# Altium schematic symbol library SRV05-4PTCT.SchLib: 2 symbols
Pins are listed as number, name and electrical type; pins without a type are passive.

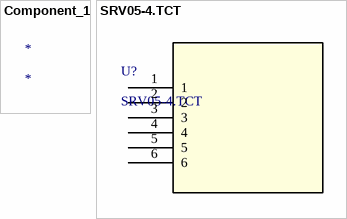
[diagram p0: symbols Component_1 to SRV05-4.TCT]

## Component_1
designator *

## SRV05-4.TCT
designator U?
No Description Available; Mfr_Name: Semtech; Copyright: Copyright (C) 2023 Ultra Librarian. All rights reserved.; Manufacturer_Part_Number: SRV05-4.TCT; RefDes: RefDes; Type: DEV
footprint SO6_SOT23-6L
pins: 1, 2, 3, 4, 5, 6